# Altium footprint library 18259651.PcbLib: 1 footprints
Each footprint in its own frame and in the unit in brackets; x right, y up, seen from the top. Pads: shape width x height; smd on the part's side, far side on the other; paste and mask are expansions set on the pad; w line width, h text height; cw(c..) or ccw(c..) is an arc to the next point about the centre after c.
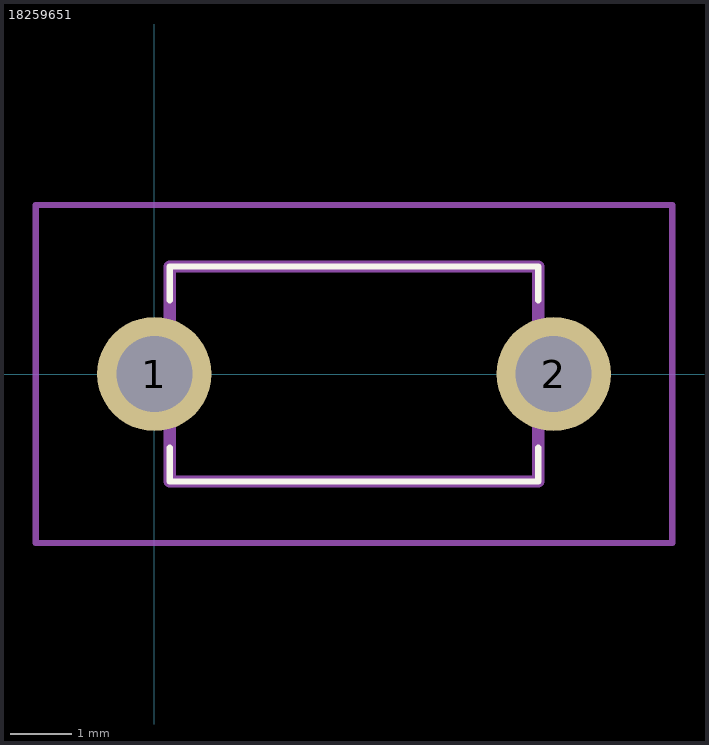
[diagram p0: the footprint, top view; thin cyan lines are the x and y axes]

## 18259651 [mm]
pads (2):
  round 1.86 hole 1.24: 1(0,0) 2(6.5,0)
Top Overlay:
  lines w0.1: 0.25,-1.2 0.25,-1.75 6.25,-1.75 6.25,-1.2 ; 0.25,1.2 0.25,1.75 6.25,1.75 6.25,1.2
Mechanical 15:
  lines w0.2: 0.25,-1.75 6.25,-1.75 6.25,1.75 0.25,1.75 0.25,-1.75
Mechanical 20:
  lines w0.1: -1.93,-2.75 8.43,-2.75 8.43,2.75 -1.93,2.75 -1.93,-2.75